# Altium schematic symbol library Iris-EXT-04-BRK_Lib.SchLib: 12 symbols
Pins are listed as number, name and electrical type; pins without a type are passive.

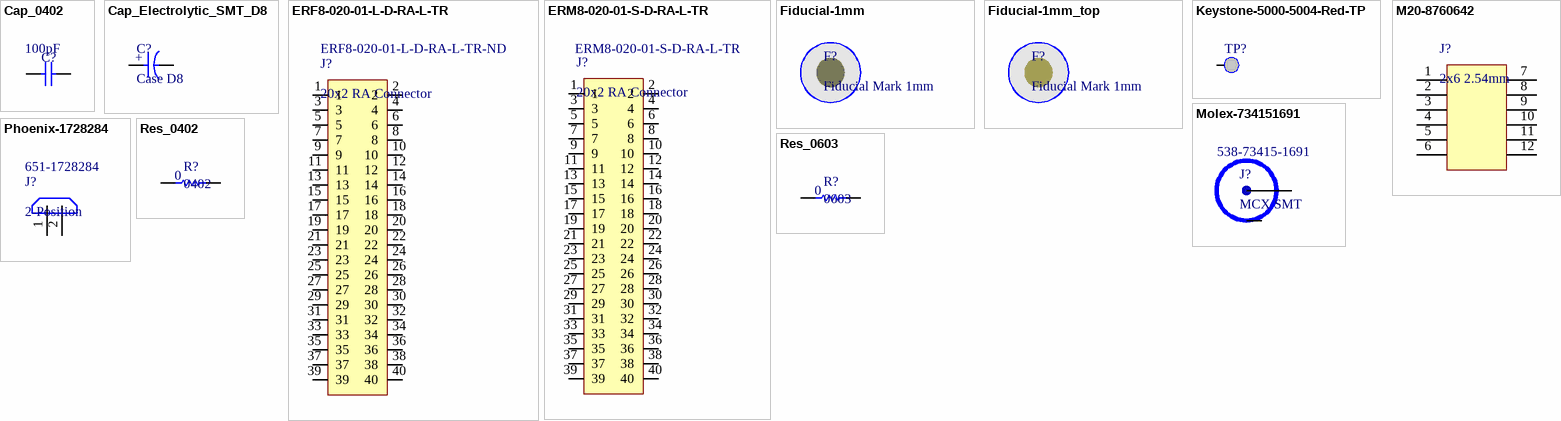
[diagram p0: symbols Cap_0402 to Res_0603]

## Cap_0402
designator C?, comment value 100pF  (hidden comment: 0402)
0402 SMT Capacitor
footprint 0402_SMT_CAP (0402 Chip Cap, Res, Ind)
pins: 1, 2

## Cap_Electrolytic_SMT_D8
designator C?, comment Case D8
Electrolytic SMT Capacitor, Case D8
footprint Panasonic_SMT_D8 (Panasonic Body D8 Electrolytic SMT Cap)
pins: A, K
text: +

## ERF8-020-01-L-D-RA-L-TR
designator J?, comment 20x2 RA Connector  Supplier Part Number 1: ERF8-020-01-L-D-RA-L-TR-ND
Samtec ERF8-020 Female Right-Angle with Latch; Supplier 1: Digi-Key; Supplier 2: Samtec; Supplier Part Number 2: ERF8-020-01-L-D-RA-L-TR-ND
footprint ERF8-020-01-L-D-RA-L-TR (Samtec ERF8 20x2 Latch RA)
pins: 1, 2, 3, 4, 5, 6, 7, 8, 9, 10, 11, 12, 13, 14, 15, 16, 17, 18, 19, 20, 21, 22, 23, 24, 25, 26, 27, 28, 29, 30, 31, 32, 33, 34, 35, 36, 37, 38, 39, 40

## ERM8-020-01-S-D-RA-L-TR
designator J?, comment 20x2 RA Connector  Supplier Part Number 1: ERM8-020-01-S-D-RA-L-TR
Samtec ERM8-020 Male Right-Angle with Latch; Supplier 1: Samtec
footprint ERM8-020-01-S-D-RA-L-TR (Samtec ERM8 20x2 Latch RA)
pins: 1, 2, 3, 4, 5, 6, 7, 8, 9, 10, 11, 12, 13, 14, 15, 16, 17, 18, 19, 20, 21, 22, 23, 24, 25, 26, 27, 28, 29, 30, 31, 32, 33, 34, 35, 36, 37, 38, 39, 40

## Fiducial-1mm
designator F?, comment Fiducial Mark 1mm  (no BOM)
footprint 1mm_FIDUCIAL (Fiducial Mark)

## Fiducial-1mm_top
designator F?, comment Fiducial Mark 1mm  (no BOM)
footprint 1mm_FIDUCIAL-TOPONLY (Fiducial Mark)

## Keystone-5000-5004-Red-TP
designator TP?, comment Testpoint  (value not drawn)
Red Through Mount Probe Testpoint; Supplier 1: Mouser; Supplier Part Number 1: 534-5000
footprint Keystone-Red-TP (Keystone Small Through Probe Testpoint - Red)
pins: 0

## M20-8760642
designator J?, comment 2x6 2.54mm
BergStik®, Board to Board connector, Unshrouded Vertical Header, Surface Mount, Double Row, 12 Positions, 2.54 mm (0.100in) Pitch; Supplier 1: Mouser; Supplier Part Number 1: 649-54202-T0806ALF
footprint M20-876-350012 (Harwin M20 DIL SMT Straight 2.54mm Header)
pins: 1, 2, 3, 4, 5, 6, 7, 8, 9, 10, 11, 12

## Molex-734151691
designator J?, comment MCX SMT  Supplier Part Number 1: 538-73415-1691
Molex 50 Ohm SMT MCX Jack; Supplier 1: Mouser
footprint Molex-734151691 (Molex MCX PCB SMT Jack 50 Ohm)
pins: 0 GND (power), 1 SIG (power)

## Phoenix-1728284
designator J?, comment 2-Position  Supplier Part Number 1: 651-1728284
Phoenix Angled Thru Screw Terminal Block 2-Pos; Supplier 1: Mouser
footprint Phoenix-1728284 (PCB Terminal Block 2-pos, angled screw)
pins: 1, 2

## Res_0402
designator R?, comment 0402  value 0
0402 SMT Resistor
footprint 0402_SMT_RES (0402 Imperial Surface Mount Resistor)
pins: 1, 2

## Res_0603
designator R?, comment 0603  value 0
0603 SMT Resistor
footprint 0603_SMT_RES (0603 Chip Resistor)
pins: 1, 2